# EAGLE library part TLV1504IPW (library PocketCube)
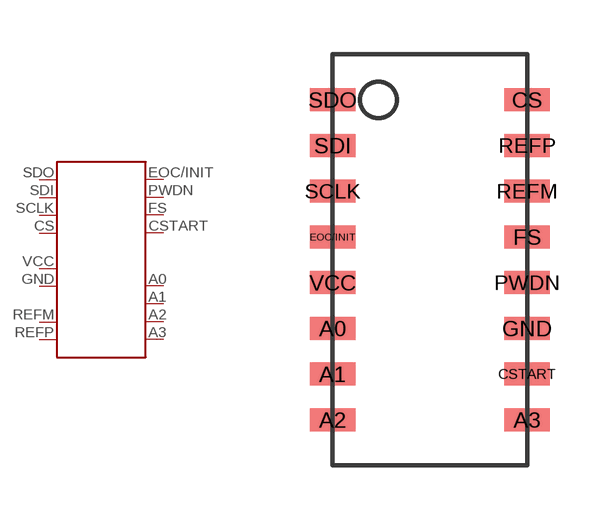
[diagram p5: symbol with the pads of TLV1504IPW; footprint TLV1504IPW]

Designator prefix -

## TLV1504IPW  [TLV1504IPW]
A0  A0
A1  A1
A2  A2
A3  A3
CS  CS
CSTART  CSTART
EOC/INIT  ECO/INIT
FS  FS
GND  GND
PWDN  PWDN
REFM  REFM
REFP  REFP
SCLK  SCLK
SDI  SDI
SDO  SDO
VCC  VCC

## Footprint TLV1504IPW (pad centres in mm)
smd 1.27 x 0.635: A0 0,2.54; A1 0,1.27; A2 0,0; A3 5.4,0; CS 5.4,8.89; CSTART 5.4,1.27; EOC/INIT 0,5.08; FS 5.4,5.08; GND 5.4,2.54; PWDN 5.4,3.81; REFM 5.4,6.35; REFP 5.4,7.62; SCLK 0,6.35; SDI 0,7.62; SDO 0,8.89; VCC 0,3.81